# EAGLE library part WSSFM10 (library WiSOL)
WiSOL WSSFM10 Sigfox Module with PCB Footprint to enable handsolder
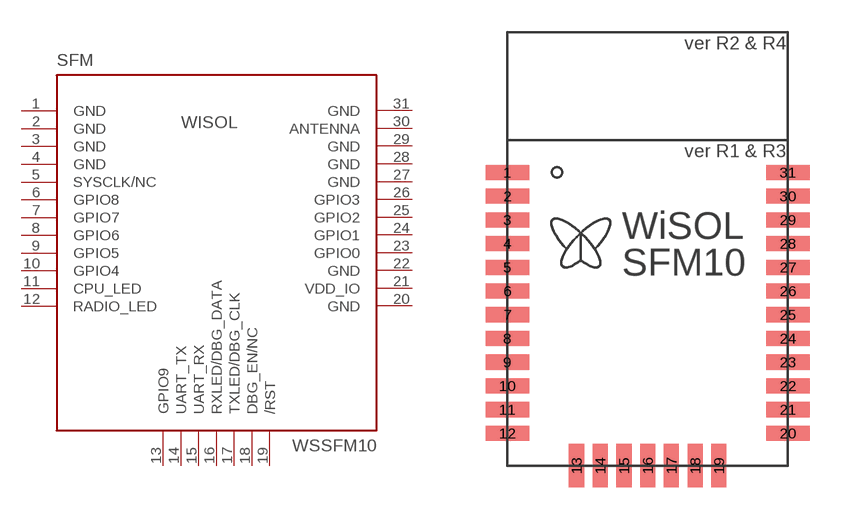
[diagram p0: symbol with the pads of WSSFM10; footprint WSSFM10]

Designator prefix SFM

## WSSFM10'HANDSOLDER'  [WSSFM10]
1  GND  sup
2  GND  sup
3  GND  sup
4  GND  sup
5  SYSCLK/NC  nc
6  GPIO8
7  GPIO7
8  GPIO6
9  GPIO5
10  GPIO4
11  CPU_LED  out
12  RADIO_LED  out
13  GPIO9
14  UART_TX  out
15  UART_RX  in
16  RXLED/DBG_DATA  out
17  TXLED/DBG_CLK  out
18  DBG_EN/NC  nc
19  /RST  in
20  GND  sup
21  VDD_IO  sup
22  GND  sup
23  GPIO0
24  GPIO1
25  GPIO2
26  GPIO3
27  GND  sup
28  GND  sup
29  GND  sup
30  ANTENNA  out
31  GND  sup

## Footprint WSSFM10 (pad centres in mm)
longer pads to enable handsolder
smd 2 x 0.7: 1 -6.5,6; 2 -6.5,4.9; 3 -6.5,3.8; 4 -6.5,2.7; 5 -6.5,1.6; 6 -6.5,0.5; 7 -6.5,-0.6; 8 -6.5,-1.7; 9 -6.5,-2.8; 10 -6.5,-3.9; 11 -6.5,-5; 12 -6.5,-6.1; 20 6.5,-6.1; 21 6.5,-5; 22 6.5,-3.9; 23 6.5,-2.8; 24 6.5,-1.7; 25 6.5,-0.6; 26 6.5,0.5; 27 6.5,1.6; 28 6.5,2.7; 29 6.5,3.8; 30 6.5,4.9; 31 6.5,6
smd 0.7 x 2: 13 -3.3,-7.6; 14 -2.2,-7.6; 15 -1.1,-7.6; 16 0,-7.6; 17 1.1,-7.6; 18 2.2,-7.6; 19 3.3,-7.6